# EAGLE library part G65SC51P (library commodore)
California Micro Devices Version
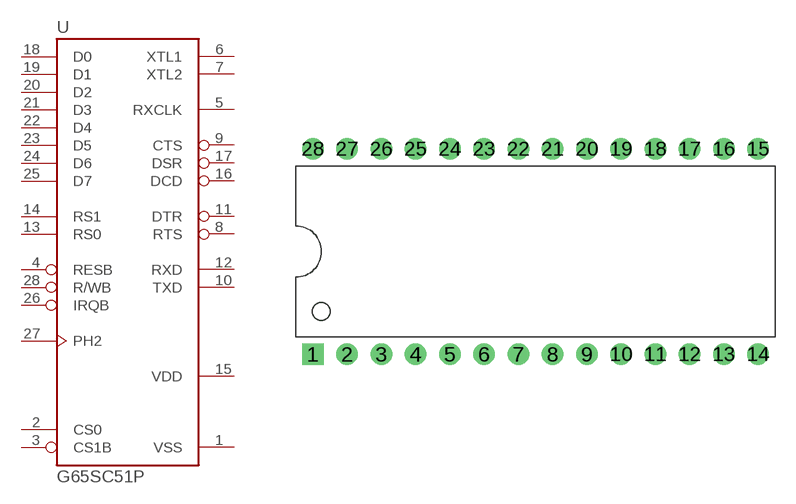
[diagram p42: symbol with the pads of DIP-28; footprint DIP-28]

Designator prefix U

## G65SC51P  [DIP-28]
1  VSS  sup
2  CS0  in
3  CS1B  in
4  RESB  in
5  RXCLK
6  XTL1  in
7  XTL2  out
8  RTS  out
9  CTS  in
10  TXD  out
11  DTR  out
12  RXD  in
13  RS0  in
14  RS1  in
15  VDD  pwr
16  DCD  in
17  DSR  in
18  D0
19  D1
20  D2
21  D3
22  D4
23  D5
24  D6
25  D7
26  IRQB  out
27  PH2  pwr
28  R/WB  in

## Footprint DIP-28 (pad centres in mm)
28-Pin DIP, 0.6" Wide
drill 0.889 pad 1.6 square: 1 -15.24,-7.62
drill 0.889 pad 1.6: 2 -12.7,-7.62; 3 -10.16,-7.62; 4 -7.62,-7.62; 5 -5.08,-7.62; 6 -2.54,-7.62; 7 0,-7.62; 8 2.54,-7.62; 9 5.08,-7.62; 10 7.62,-7.62; 11 10.16,-7.62; 12 12.7,-7.62; 13 15.24,-7.62; 14 17.78,-7.62; 15 17.78,7.62; 16 15.24,7.62; 17 12.7,7.62; 18 10.16,7.62; 19 7.62,7.62; 20 5.08,7.62; 21 2.54,7.62; 22 0,7.62; 23 -2.54,7.62; 24 -5.08,7.62; 25 -7.62,7.62; 26 -10.16,7.62; 27 -12.7,7.62; 28 -15.24,7.62